# EAGLE library part 1554ИЕ10 (library std-logic-1554series)
АЕЯР.431200.182-03 ТУ 1554ИЕ10 - Четырехразрядный двоичный счетчик с асинхронной установкой в состояние "Логический 0". Изготовитель: ОАО "ИНТЕГРАЛ", г. Минск, р. Беларусь. Технические условия (ТБМ): АЕЯР.431200.182-03 ТУ Технические условия (не ТБМ): АЕЯР.431200.093-04 ТУ
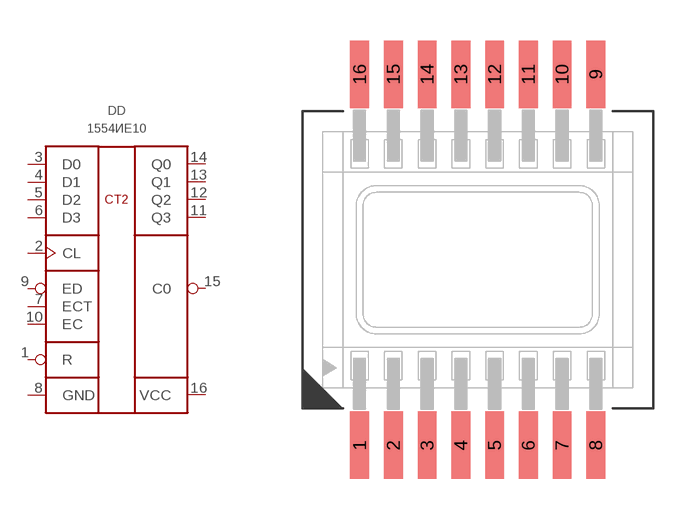
[diagram p34: symbol with the pads of 402.16-32; footprint 402.16-32]

Designator prefix DD

## 1554ИЕ10ТБМ  [402.16-32]
1  R  in
2  CL  in
3  D0  in
4  D1  in
5  D2  in
6  D3  in
7  ECT  in
8  GND  pwr
9  ED  in
10  EC  in
11  Q3  out
12  Q2  out
13  Q1  out
14  Q0  out
15  C0  out
16  VCC  pwr

## Footprint 402.16-32 (pad centres in mm)
smd 0.7 x 2.5: 1 -4.375,-6.875; 2 -3.125,-6.875; 3 -1.875,-6.875; 4 -0.625,-6.875; 5 0.625,-6.875; 6 1.875,-6.875; 7 3.125,-6.875; 8 4.375,-6.875; 9 4.375,6.875; 10 3.125,6.875; 11 1.875,6.875; 12 0.625,6.875; 13 -0.625,6.875; 14 -1.875,6.875; 15 -3.125,6.875; 16 -4.375,6.875